# EAGLE library part SL09 (library MRDT-Connectors)
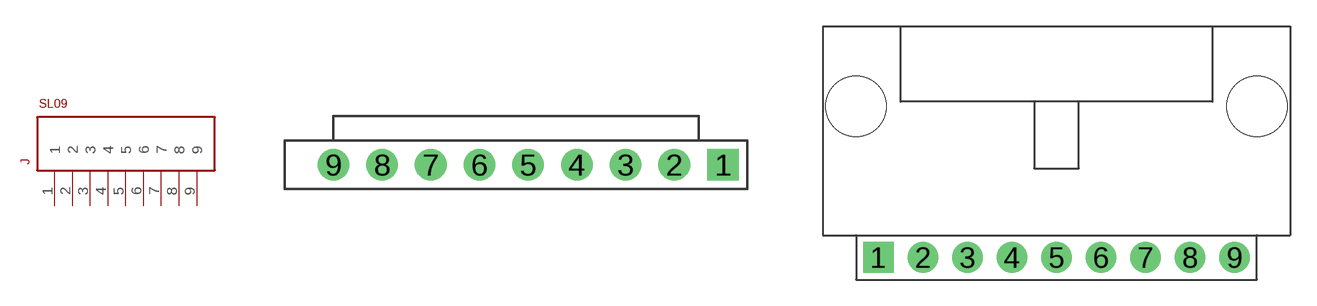
[diagram p5: symbol with the pads of MOLEX-70543-0008; footprints MOLEX-70543-0008, MOLEX-70551-0008]

Designator prefix J

## SL09  [MOLEX-70543-0008]
1  1
2  2
3  3
4  4
5  5
6  6
7  7
8  8
9  9

## SL09-HORIZ  [MOLEX-70551-0008]
Pads as for MOLEX-70543-0008

## Footprint MOLEX-70543-0008 (pad centres in mm)
drill 1.1 square: 1 10.16,0
drill 1.1: 2 7.62,0; 3 5.08,0; 4 2.54,0; 5 0,0; 6 -2.54,0; 7 -5.08,0; 8 -7.62,0; 9 -10.16,0

## Footprint MOLEX-70551-0008 (pad centres in mm)
drill 1.168 square: 1 -10.16,0
drill 1.168: 2 -7.62,0; 3 -5.08,0; 4 -2.54,0; 5 0,0; 6 2.54,0; 7 5.08,0; 8 7.62,0; 9 10.16,0
hole 3.454 at -11.43,8.636
hole 3.454 at 11.43,8.636